# Altium footprint library Driver.PcbLib: 8 footprints
Each footprint in its own frame and in the unit in brackets; x right, y up, seen from the top. Pads: shape width x height; smd on the part's side, far side on the other; paste and mask are expansions set on the pad; w line width, h text height; cw(c..) or ccw(c..) is an arc to the next point about the centre after c.
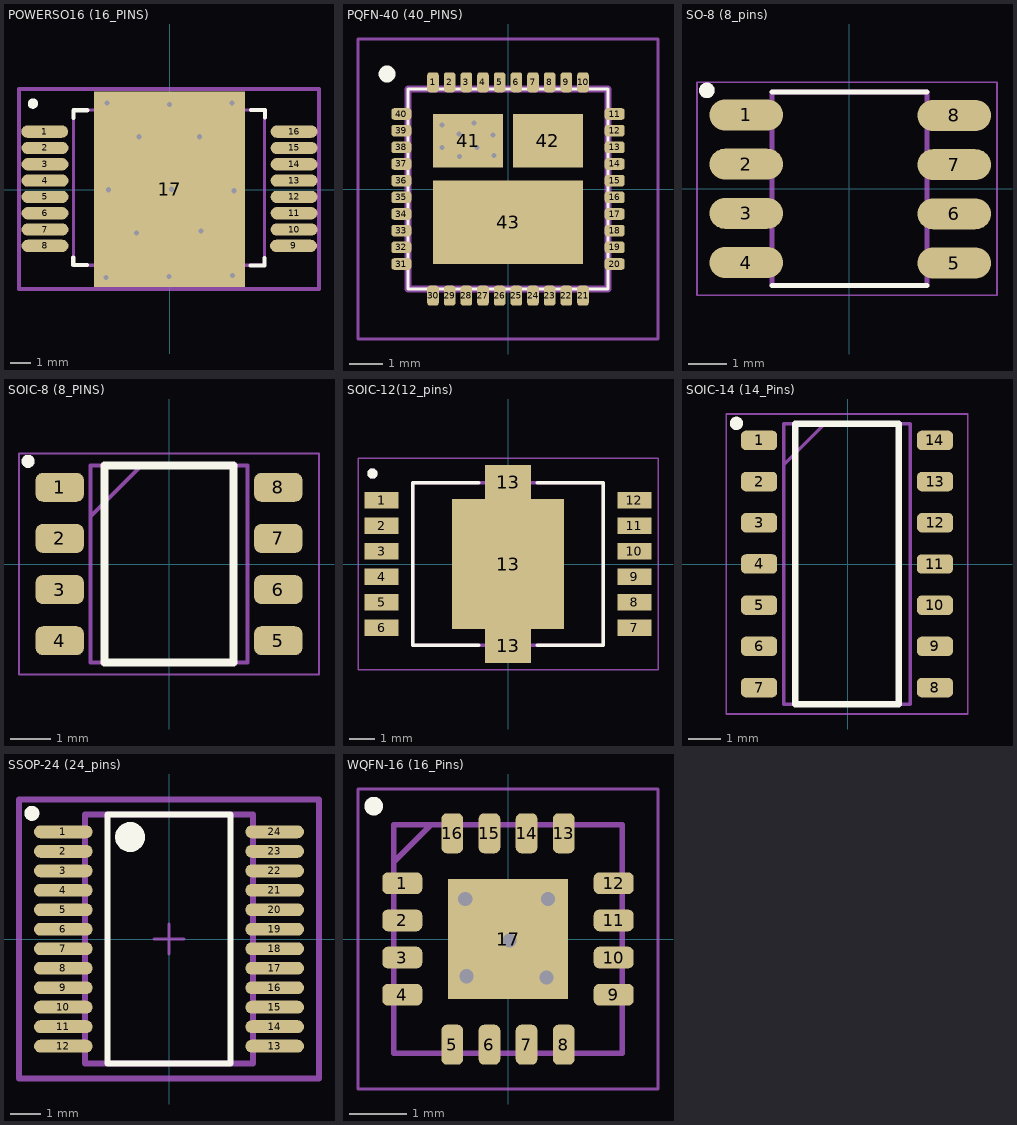
[diagram p0: the footprints below, top view; thin cyan lines are the x and y axes]

## POWERSO16 (16_PINS) [mm] "POWERSO16 (16_PINS)"
pads (17):
  oval 2.3x0.6 smd paste+0 mask+0: 1(-6.125,2.85) 2(-6.108,2.05) 3(-6.108,1.25) 4(-6.108,0.45) 5(-6.108,-0.35) 6(-6.108,-1.15) 7(-6.108,-1.95) 8(-6.108,-2.75) 9(6.075,-2.75) 10(6.1,-1.95) 11(6.1,-1.15) 12(6.1,-0.35) 13(6.1,0.45) 14(6.1,1.25) 15(6.1,2.05) 16(6.1,2.85)
  rect 7.4x9.6 smd paste+0 mask+0: 17(0,0.025)
via 1.475,2.6 diameter 0.5 hole 0.25
via 0,4.175 diameter 0.5 hole 0.25
via -1.5,2.6 diameter 0.5 hole 0.25
via -0.025,-4.25 diameter 0.5 hole 0.25
via 3.075,-4.2 diameter 0.5 hole 0.25
via -3.125,-4.3 diameter 0.5 hole 0.25
via 1.538,-2.025 diameter 0.5 hole 0.25
via -1.625,-2.125 diameter 0.5 hole 0.25
via 3.15,-0.05 diameter 0.5 hole 0.25
via 0.1,0.025 diameter 0.5 hole 0.25
via -3,0 diameter 0.5 hole 0.25
via 3.05,4.25 diameter 0.5 hole 0.25
via -3.075,4.25 diameter 0.5 hole 0.25
Top Overlay:
  circle w0.3: c-6.7,4.225 r0.103
  lines w0.2: -4.725,-3.313 -4.725,-3.688 -4.05,-3.688 ; -4.712,3.525 -4.712,3.9 -4.037,3.9 ; 3.975,-3.713 4.65,-3.713 4.65,-3.338 ; 4,3.912 4.675,3.912 4.675,3.537
Mechanical 10:
  lines w0.2: -7.383,-4.875 -7.383,4.95 7.325,4.95 7.325,-4.875 -7.383,-4.875
Mechanical 12:
  lines w0.15: -4.708,-3.7 -4.708,3.9 4.65,3.9 4.65,-3.7 -4.708,-3.7
Mechanical 15:
  lines w0.1: -0.783,-0.4 0.217,-0.4 ; -0.283,-0.9 -0.283,0.1
  lines w0.2: -7.383,-4.875 -7.383,4.95 7.325,4.95 7.325,-4.875 -7.383,-4.875
3D body "VND5E006ASPTR.step": height -0.2, standoff -3.9, extent -7.05,-4.725 7.05,4.775

## PQFN-40 (40_PINS) [mm] "PQFN-40 (40_PINS)"
pads (43):
  rrect50% 0.35x0.6 smd: 1(-2.25,3.2) 2(-1.75,3.2) 3(-1.25,3.2) 4(-0.75,3.2) 5(-0.25,3.2) 6(0.25,3.2) 7(0.75,3.2) 8(1.25,3.2) 9(1.75,3.2) 10(2.25,3.2) 21(2.25,-3.2) 22(1.75,-3.2) 23(1.25,-3.2) 24(0.75,-3.2) 25(0.25,-3.2) 26(-0.25,-3.2) 27(-0.75,-3.2) 28(-1.25,-3.2) 29(-1.75,-3.2) 30(-2.25,-3.2)
  rrect50% 0.6x0.35 smd: 11(3.2,2.25) 12(3.2,1.75) 13(3.2,1.25) 14(3.2,0.75) 15(3.2,0.25) 16(3.2,-0.25) 17(3.2,-0.75) 18(3.2,-1.25) 19(3.2,-1.75) 20(3.2,-2.25) 31(-3.2,-2.25) 32(-3.2,-1.75) 33(-3.2,-1.25) 34(-3.2,-0.75) 35(-3.2,-0.25) 36(-3.2,0.25) 37(-3.2,0.75) 38(-3.2,1.25) 39(-3.2,1.75) 40(-3.2,2.25)
  rect 2.1x1.6 smd: 41(-1.2,1.45) 42(1.2,1.45)
  rect 4.5x2.5 smd: 43(0,-1)
via -1.975,1.925 diameter 0.3 hole 0.15
via -1.475,1.65 diameter 0.3 hole 0.15
via -1.45,0.975 diameter 0.3 hole 0.15
via -0.45,1.625 diameter 0.3 hole 0.15
via -0.425,1 diameter 0.3 hole 0.15
via -0.925,1.25 diameter 0.3 hole 0.15
via -1.025,1.975 diameter 0.3 hole 0.15
via -1.975,1.25 diameter 0.3 hole 0.15
Top Overlay:
  circle w0.3: c-3.625,3.45 r0.103
  lines w0.1: -3,-3 -3,3 3,3 3,-3 -3,-3
Mechanical 13:
  lines w0.2: -3,-3 -3,3 3,3 3,-3 -3,-3
Mechanical 15:
  lines w0.1: -4.5,-4.5 -4.5,4.5 4.5,4.5 4.5,-4.5 -4.5,-4.5
3D body "FDMF6820C.stp": height 1.2, standoff 0, extent -3,-3 3,3

## SO-8 (8_pins) [mm]
pads (16):
  oval 1.9x0.8 smd: 1(-2.667,1.905) 2(-2.667,0.635) 3(-2.667,-0.635) 4(-2.667,-1.905) 5(2.704,-1.918) 6(2.704,-0.648) 7(2.704,0.622) 8(2.704,1.892)
  rrect25% 1.71x0 smd: 1(-2.605,1.905) 2(-2.605,0.635) 3(-2.605,-0.635) 4(-2.605,-1.905) 5(2.605,-1.905) 6(2.605,-0.635) 7(2.605,0.635) 8(2.605,1.905)
Top Overlay:
  circle w0.2: c-3.683,2.54 r0.1
  lines w0.127: -2,-2.5 2,-2.5 ; -2,2.5 2,2.5
Mechanical 13:
  circle w0.2: c-3.683,2.54 r0.1
  lines w0.127: -2,-2.5 2,-2.5 2,2.5 -2,2.5 -2,-2.5
Mechanical 15:
  lines w0.05: -3.937,-2.75 3.81,-2.75 3.81,2.75 -3.937,2.75 -3.937,-2.75
3D body "step_temp.STEP": height 1.75, standoff 0, extent -3,-2.45 3,2.45

## SOIC-8 (8_PINS) [mm] "SOIC-8 (8_PINS)"
pads (8):
  rrect50% 1.2x0.72 smd: 1(-2.712,1.905) 2(-2.712,0.635) 3(-2.712,-0.635) 4(-2.712,-1.905) 5(2.712,-1.905) 6(2.712,-0.635) 7(2.712,0.635) 8(2.712,1.905)
Top Overlay:
  lines w0.2: -3.44,2.566 ccw(c-3.5,2.55) -3.438,2.546 ; -1.6,-2.45 1.6,-2.45 1.6,2.45 -1.6,2.45 -1.6,-2.45
Mechanical 13:
  lines w0.1: -1.95,1.18 -0.68,2.45 ; -1.95,-2.45 1.95,-2.45 1.95,2.45 -1.95,2.45 -1.95,-2.45
Mechanical 15:
  lines w0.05: -3.725,-2.75 3.725,-2.75 3.725,2.75 -3.725,2.75 -3.725,-2.75
3D body "User Library-SOIC-8-1.STEP": height 1.75, standoff 0, extent -3,-2.45 3,2.45

## SOIC-12(12_pins) [mm]
pads (15):
  rect 1.35x0.65 smd: 1(-4.975,2.5) 2(-4.975,1.5) 3(-4.975,0.5) 4(-4.975,-0.5) 5(-4.975,-1.5) 6(-4.975,-2.5) 7(4.975,-2.5) 8(4.975,-1.5) 9(4.975,-0.5) 10(4.975,0.5) 11(4.975,1.5) 12(4.975,2.5)
  rect 1.8x1.35 smd paste-2: 13(0,-3.225) 13(0,3.225)
  rect 4.4x5.1 smd paste-4: 13(0,0)
Top Overlay:
  circle w0.2: c-5.334,3.556 r0.102
  lines w0.127: -1.15,-3.2 -3.75,-3.2 -3.75,3.2 -1.15,3.2 ; 1.15,-3.2 3.75,-3.2 3.75,3.2 1.15,3.2
Top Paste:
  region: 0.475,-4.125 -0.475,-4.125 -0.475,-2.525 0.475,-2.525
  region: -0.025,-2.275 -2.275,-2.275 -2.275,-0.375 -0.025,-0.375
  region: 2.275,-2.275 0.025,-2.275 0.025,-0.375 2.275,-0.375
  region: -0.025,0.375 -2.275,0.375 -2.275,2.275 -0.025,2.275
  region: 2.275,0.375 0.025,0.375 0.025,2.275 2.275,2.275
  region: 0.475,2.525 -0.475,2.525 -0.475,4.125 0.475,4.125
Mechanical 13:
  circle w0.2: c-5.334,3.556 r0.102
  lines w0.127: -3.75,-3.2 -3.75,3.2 3.75,3.2 3.75,-3.2 -3.75,-3.2
Mechanical 15:
  lines w0.05: -5.9,-4.15 -5.9,4.15 5.9,4.15 5.9,-4.15 -5.9,-4.15
3D body: height 2.6, standoff 0, extent -3.715,-3.292 3.885,3.208

## SOIC-14 (14_Pins) [mm] "14-Lead SOIC (14_Pins)"
pads (14):
  rrect50% 1.115x0.6 smd: 1(-2.725,3.825) 2(-2.725,2.555) 3(-2.728,1.284) 4(-2.725,0.015) 5(-2.725,-1.255) 6(-2.728,-2.526) 7(-2.728,-3.796) 8(2.696,-3.796) 9(2.696,-2.526) 10(2.696,-1.256) 11(2.696,0.014) 12(2.7,1.285) 13(2.7,2.555) 14(2.696,3.824)
Top Overlay:
  circle w0.3: c-3.425,4.35 r0.056
  lines w0.2: -1.616,-4.311 1.584,-4.311 1.584,4.339 -1.616,4.339 -1.616,-4.311
Mechanical 13:
  lines w0.1: -1.966,3.069 -0.696,4.339 ; -1.966,-4.311 1.934,-4.311 1.934,4.339 -1.966,4.339 -1.966,-4.311
Mechanical 15:
  lines w0.05: -3.741,-4.611 3.709,-4.611 3.709,4.639 -3.741,4.639 -3.741,-4.611
3D body "User Library-so14-1.STEP": height 1.7, standoff 0, extent -3.025,-4.4 2.975,4.4

## SSOP-24 (24_pins) [mm]
pads (24):
  oval 1.954x0.432 smd paste+0 mask+0: 1(-3.525,3.575)
  rrect100% 1.954x0.432 smd paste+0 mask+0: 2(-3.525,2.925) 3(-3.525,2.275) 4(-3.525,1.625) 5(-3.525,0.975) 6(-3.525,0.325) 7(-3.525,-0.325) 8(-3.525,-0.975) 9(-3.525,-1.625) 10(-3.525,-2.275) 11(-3.525,-2.925) 12(-3.525,-3.575) 13(3.525,-3.575) 14(3.525,-2.925) 15(3.525,-2.275) 16(3.525,-1.625) 17(3.525,-0.975) 18(3.525,-0.325) 19(3.525,0.325) 20(3.525,0.975) 21(3.525,1.625) 22(3.525,2.275) 23(3.525,2.925) 24(3.525,3.575)
Top Overlay:
  circle w0.5: c-1.298,3.4 r0.25
  circle w0.25: c-4.572,4.191 r0.125
  lines w0.2: -2.048,-4.15 2.048,-4.15 2.048,4.15 -2.048,4.15 -2.048,-4.15
Mechanical 10:
  lines w0.2: -5.002,-4.65 -5.002,4.65 5.002,4.65 5.002,-4.65 -5.002,-4.65
  text ".Designator" at 0,0.188 h1
Mechanical 12:
  lines w0.2: -2.8,-4.15 -2.8,4.15 2.8,4.15 2.8,-4.15 -2.8,-4.15
Mechanical 15:
  lines w0.1: -0.5,0 0.5,0 ; 0,-0.5 0,0.5
  lines w0.2: -5.002,-4.65 -5.002,4.65 5.002,4.65 5.002,-4.65 -5.002,-4.65
3D body "IC_Toshiba_TB6612FNG_C_8_EL_eec.STEP": height 0.25, standoff 0, extent -5.002,-4.65 5.002,4.65

## WQFN-16 (16_Pins) [mm] "WQFN-16 (16_Pins)"
pads (17):
  rrect50% 0.7x0.38 smd: 1(-1.85,0.975) 2(-1.85,0.325) 3(-1.85,-0.325) 4(-1.85,-0.975) 9(1.85,-0.975) 10(1.85,-0.325) 11(1.85,0.325) 12(1.85,0.975)
  rrect50% 0.38x0.7 smd: 5(-0.975,-1.85) 6(-0.325,-1.85) 7(0.325,-1.85) 8(0.975,-1.85) 13(0.975,1.85) 14(0.325,1.85) 15(-0.325,1.85) 16(-0.975,1.85)
  rect 2.1x2.1 smd: 17(0,0)
via -0.75,0.7 diameter 0.5 hole 0.25
via 0.7,0.7 diameter 0.5 hole 0.25
via 0.025,-0.025 diameter 0.5 hole 0.25
via -0.725,-0.65 diameter 0.5 hole 0.25
via 0.675,-0.675 diameter 0.5 hole 0.25
Top Overlay:
  lines w0.2: -2.29,2.341 ccw(c-2.35,2.325) -2.288,2.321
Mechanical 13:
  lines w0.1: -2,1.35 -1.35,2 ; -2,-2 -2,2 2,2 2,-2 -2,-2
Mechanical 15:
  lines w0.05: -2.625,-2.625 -2.625,2.625 2.625,2.625 2.625,-2.625 -2.625,-2.625
3D body "DRV8833RTYT.stp": height 0.8, standoff 0, extent -2.05,-2.05 2.05,2.05